# Altium footprint library CustomParts.PcbLib: 113 footprints (part 4 of 8)
Each footprint in its own frame and in the unit in brackets; x right, y up, seen from the top. Pads: shape width x height; smd on the part's side, far side on the other; paste and mask are expansions set on the pad; w line width, h text height; cw(c..) or ccw(c..) is an arc to the next point about the centre after c.
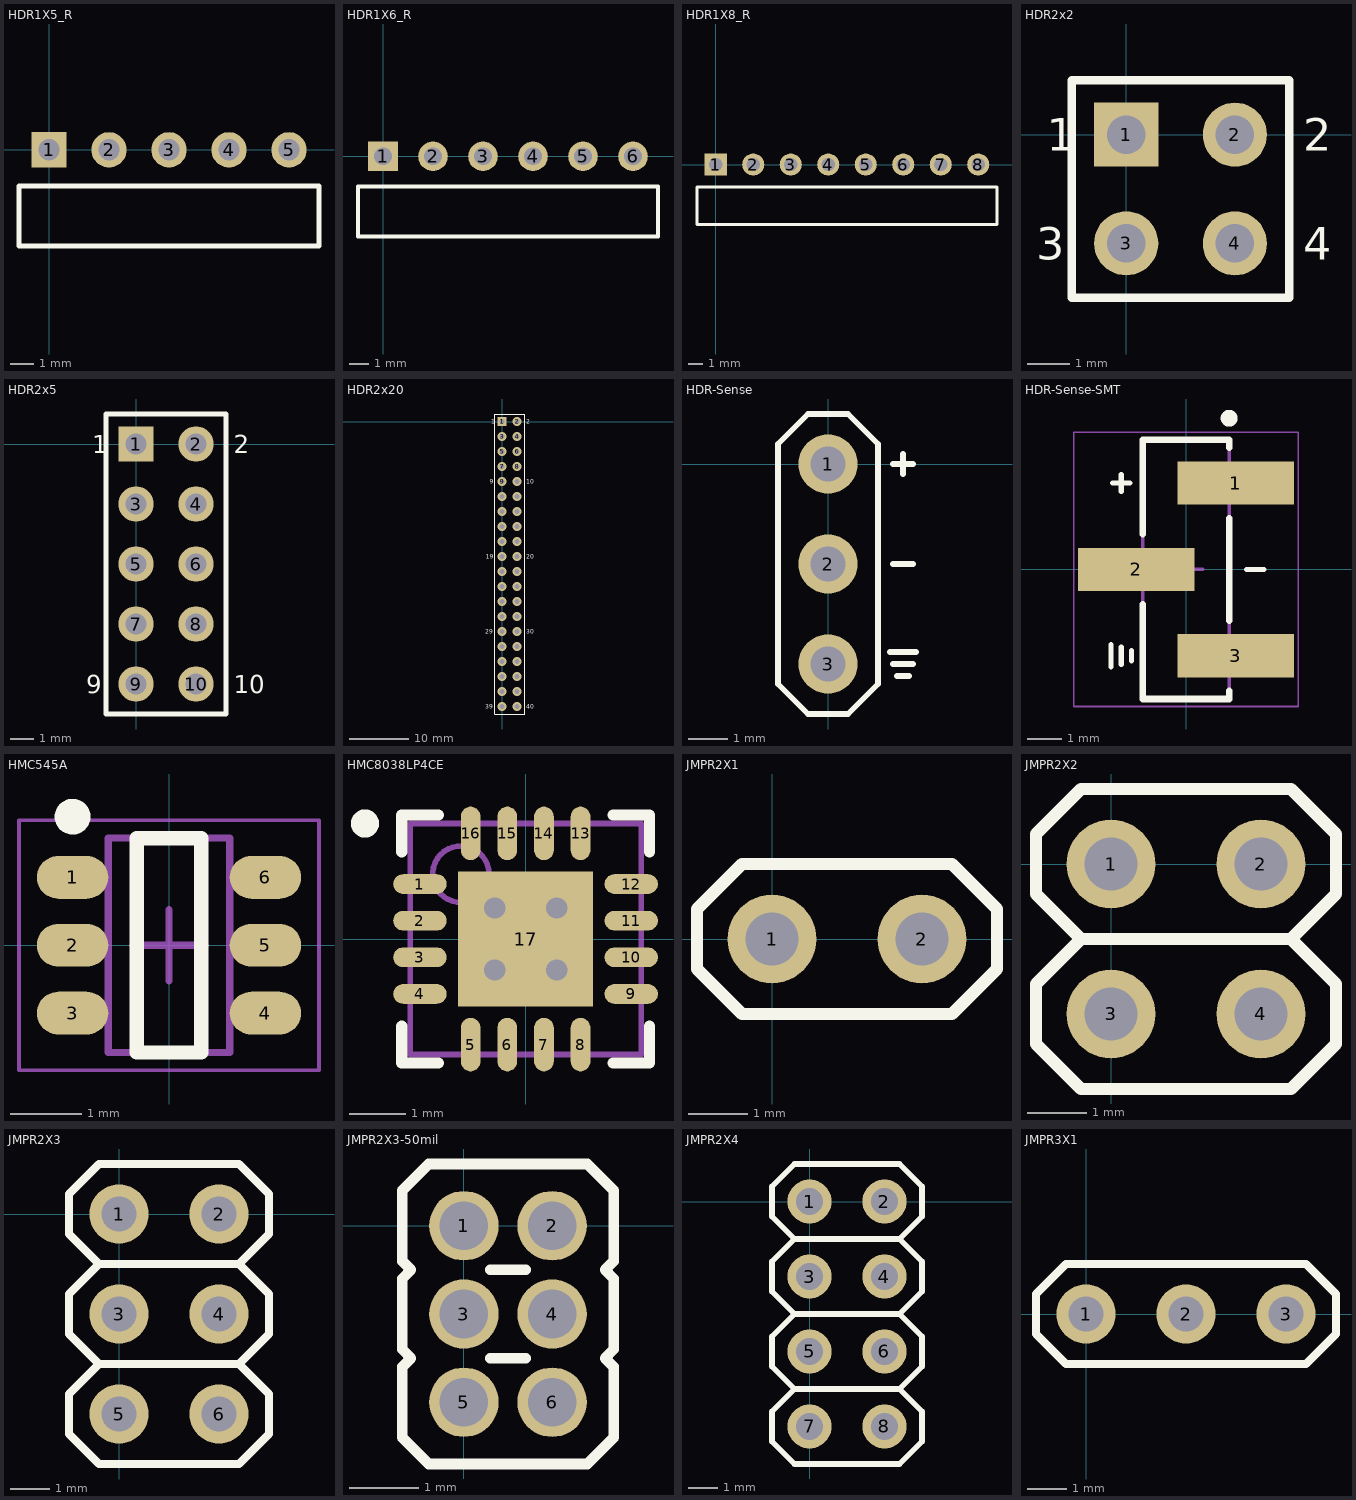
[diagram p3: the footprints below, top view; thin cyan lines are the x and y axes]

## HDR1X5_R [mm] "Power Header; 5 Position; Right Angle"
pads (5):
  rect 1.5x1.5 hole 0.9: 1(0,0)
  round 1.5 hole 0.9: 2(2.54,0) 3(5.08,0) 4(7.62,0) 5(10.16,0)
Top Overlay:
  lines w0.203: -1.27,-4.064 -1.27,-1.524 11.43,-1.524 11.43,-4.064 -1.27,-4.064

## HDR1X6_R [mm] "Power Header; 6 Position; Right Angle"
pads (6):
  rect 1.5x1.5 hole 0.9: 1(0,0)
  round 1.5 hole 0.9: 2(2.54,0) 3(5.08,0) 4(7.62,0) 5(10.16,0) 6(12.7,0)
Top Overlay:
  lines w0.203: -1.27,-4.064 -1.27,-1.524 13.97,-1.524 13.97,-4.064 -1.27,-4.064

## HDR1X8_R [mm] "Power Header; 8 Position; Right Angle"
pads (8):
  rect 1.5x1.5 hole 0.9: 1(0,0)
  round 1.5 hole 0.9: 2(2.54,0) 3(5.08,0) 4(7.62,0) 5(10.16,0) 6(12.7,0) 7(15.24,0) 8(17.78,0)
Top Overlay:
  lines w0.203: -1.27,-1.524 -1.27,-4.064 19.05,-4.064 19.05,-1.524 -1.245,-1.524

## HDR2x2 [mm] "Header, 2x2-Pin, 100 mil Pitch"
pads (4):
  rect 1.5x1.5 hole 0.9: 1(0,0)
  round 1.5 hole 0.9: 2(2.54,0) 3(0,-2.54) 4(2.54,-2.54)
Top Overlay:
  lines w0.203: -1.27,-3.81 -1.27,1.27 3.81,1.27 3.81,-3.81 -1.27,-3.81
  text "1" at -1.854,-0.381 h0.76
  text "2" at 4.14,-0.381 h0.76
  text "3" at -2.108,-2.921 h0.76
  text "4" at 4.14,-2.921 h0.76

## HDR2x5 [mm] "Header, 2x5-Pin, 100 mil Pitch"
pads (10):
  rect 1.5x1.5 hole 0.9: 1(0,0)
  round 1.5 hole 0.9: 2(2.54,0) 3(0,-2.54) 4(2.54,-2.54) 5(0,-5.08) 6(2.54,-5.08) 7(0,-7.62) 8(2.54,-7.62) 9(0,-10.16) 10(2.54,-10.16)
Top Overlay:
  lines w0.203: -1.27,-11.43 -1.27,1.27 3.81,1.27 3.81,-11.43 -1.27,-11.43
  text "1" at -1.854,-0.381 h0.76
  text "2" at 4.14,-0.381 h0.76
  text "9" at -2.108,-10.541 h0.76
  text "10" at 4.14,-10.541 h0.76

## HDR2x20 [mm] "Header, 2x20-Pin, 100 mil Pitch"
pads (40):
  rect 1.5x1.5 hole 0.9: 1(0,0)
  round 1.5 hole 0.9: 2(2.54,0) 3(0,-2.54) 4(2.54,-2.54) 5(0,-5.08) 6(2.54,-5.08) 7(0,-7.62) 8(2.54,-7.62) 9(0,-10.16) 10(2.54,-10.16) 11(0,-12.7) 12(2.54,-12.7) 13(0,-15.24) 14(2.54,-15.24) 15(0,-17.78) 16(2.54,-17.78) 17(0,-20.32) 18(2.54,-20.32) 19(0,-22.86) 20(2.54,-22.86) 21(0,-25.4) 22(2.54,-25.4) 23(0,-27.94) 24(2.54,-27.94) 25(0,-30.48) 26(2.54,-30.48) 27(0,-33.02) 28(2.54,-33.02) 29(0,-35.56) 30(2.54,-35.56) 31(0,-38.1) 32(2.54,-38.1) 33(0,-40.64) 34(2.54,-40.64) 35(0,-43.18) 36(2.54,-43.18) 37(0,-45.72) 38(2.54,-45.72) 39(0,-48.26) 40(2.54,-48.26)
Top Overlay:
  lines w0.203: -1.27,-49.53 -1.27,1.27 3.81,1.27 3.81,-49.53 -1.27,-49.53
  text "1" at -1.854,-0.381 h0.76
  text "2" at 4.14,-0.381 h0.76
  text "40" at 4.14,-48.641 h0.76
  text "39" at -2.87,-48.641 h0.76
  text "9" at -2.108,-10.541 h0.76
  text "10" at 4.14,-10.541 h0.76
  text "19" at -2.743,-23.241 h0.76
  text "20" at 4.14,-23.241 h0.76
  text "29" at -2.87,-35.941 h0.76
  text "30" at 4.14,-35.941 h0.76

## HDR-Sense [mm] "Current Sense Connection Header, Through-Hole"
pads (3):
  round 1.5 hole 0.9: 1(0,0) 2(0,-2.54) 3(0,-5.08)
Top Overlay:
  lines w0.152: -0.381,-6.35 0.381,-6.35 ; 1.575,-4.775 2.235,-4.775 ; 1.651,-5.08 2.159,-5.08 ; 1.651,-2.54 2.159,-2.54 ; 1.651,0 2.159,0 ; 1.753,-5.385 2.057,-5.385 ; 1.905,-0.254 1.905,0.254 ; -1.27,-5.588 -0.508,-6.35 0.508,-6.35 1.27,-5.588 1.27,0.508 0.508,1.27 -0.508,1.27 -1.27,0.508 -1.27,-5.588

## HDR-Sense-SMT [mm] "SMTC-TSM-103-01-XXX-SV with modified silk screen"
pads (3):
  rect 3.43x1.27 smd: 1(1.46,2.54) 2(-1.46,0) 3(1.46,-2.54)
Top Overlay:
  circle w0.25: c1.271,4.445 r0.125
  lines w0.152: -2.21,-2.87 -2.21,-2.21 ; -2.159,2.54 -1.651,2.54 ; -1.905,-2.794 -1.905,-2.286 ; -1.905,2.286 -1.905,2.794 ; -1.6,-2.692 -1.6,-2.388 ; 1.778,0 2.286,0
  lines w0.2: -1.27,-1.035 -1.27,-3.81 1.27,-3.81 1.27,-3.575 ; -1.27,1.035 -1.27,3.81 1.27,3.81 1.27,3.575 ; 1.27,-1.505 1.27,1.505
Mechanical 13:
  lines w0.1: -1.27,-3.81 -1.27,3.81 1.27,3.81 1.27,-3.81 -1.27,-3.81
Mechanical 15:
  lines w0.05: -3.3,-4.035 3.3,-4.035 3.3,4.035 -3.3,4.035 -3.3,-4.035
  lines w0.1: -0.5,0 0.5,0 ; 0,-0.5 0,0.5
3D body "TSM-103-01-L-SV.stp": height 9.65, standoff 0, extent -2.642,-3.81 2.642,3.81

## HMC545A [mm] "SOT23, 6-Leads, Body 2.90x2.80mm, Pitch 0.95mm, IPC Medium Density"
height 1.45
pads (6):
  oval 1x0.6 smd: 1(-1.35,0.95) 2(-1.35,0) 3(-1.35,-0.95) 4(1.35,-0.95) 5(1.35,0) 6(1.35,0.95)
Top Overlay:
  circle w0.25: c-1.35,1.8 r0.125
  lines w0.2: -0.45,-1.5 0.45,-1.5 0.45,1.5 -0.45,1.5 -0.45,-1.5
Mechanical 13:
  lines w0.1: -0.85,-1.5 -0.85,1.5 0.85,1.5 0.85,-1.5 -0.85,-1.5
Mechanical 15:
  lines w0.05: -2.1,-1.75 -2.1,1.75 2.1,1.75 2.1,-1.75 -2.1,-1.75
  lines w0.1: -0.5,0 0.5,0 ; 0,-0.5 0,0.5
3D body "SOT95P280X145-6N.step": height 1.45, standoff 0, extent -1.5,-1.5 1.5,1.5

## HMC8038LP4CE [mm] "QFN, 16-Leads, Body 4.00x4.00mm, Pitch 0.65mm, Thermal Pad 2.40x2.40mm, IPC Medium Density"
height 1
pads (17):
  oval 0.95x0.35 smd mask+0.102: 1(-1.875,0.975) 2(-1.875,0.325) 3(-1.875,-0.325) 4(-1.875,-0.975) 9(1.875,-0.975) 10(1.875,-0.325) 11(1.875,0.325) 12(1.875,0.975)
  oval 0.35x0.95 smd mask+0.102: 5(-0.975,-1.875) 6(-0.325,-1.875) 7(0.325,-1.875) 8(0.975,-1.875) 13(0.975,1.875) 14(0.325,1.875) 15(-0.325,1.875) 16(-0.975,1.875)
  rect 2.4x2.4 smd mask+0.102: 17(0,0)
via 0.55,-0.55 diameter 0.762 hole 0.381
via -0.55,-0.55 diameter 0.762 hole 0.381
via 0.55,0.55 diameter 0.762 hole 0.381
via -0.55,0.55 diameter 0.762 hole 0.381
Top Overlay:
  circle w0.25: c-2.85,2.05 r0.125
  lines w0.2: -2.2,-1.55 -2.2,-2.2 -1.55,-2.2 ; -2.2,1.55 -2.2,2.2 -1.55,2.2 ; 1.55,-2.2 2.2,-2.2 2.2,-1.55 ; 1.55,2.2 2.2,2.2 2.2,1.55
Mechanical 13:
  circle w0.1: c-1.15,1.15 r0.5
  lines w0.1: -2.05,-2.05 2.05,-2.05 2.05,2.05 -2.05,2.05 -2.05,-2.05
3D body: height 1, standoff 0.02, extent -2.05,-2.05 2.05,2.05

## JMPR2X1 [mm] "Jumper, 2-Position"
pads (2):
  round 1.5 hole 0.9: 1(0,0) 2(2.54,0)
Top Overlay:
  lines w0.203: -0.508,1.27 -1.27,0.508 -1.27,0 -1.27,-0.508 -0.508,-1.27 3.048,-1.27 3.81,-0.508 3.81,0.508 3.048,1.27 ; -0.508,1.27 3.048,1.27 ; -0.508,1.27 3.048,1.27

## JMPR2X2 [mm] "Jumper, Two of 2-Position"
pads (4):
  round 1.5 hole 0.9: 1(0,0) 2(2.54,0) 3(0,-2.54) 4(2.54,-2.54)
Top Overlay:
  lines w0.203: -0.508,-1.27 -1.27,-2.032 -1.27,-2.54 -1.27,-3.048 -0.508,-3.81 3.048,-3.81 3.81,-3.048 3.81,-2.032 3.048,-1.27 ; -0.508,-1.27 3.048,-1.27 ; -0.508,-1.27 3.048,-1.27 ; -0.508,-1.27 -1.27,-0.508 -1.27,0 -1.27,0.508 -0.508,1.27 3.048,1.27 3.81,0.508 3.81,-0.508 3.048,-1.27

## JMPR2X3 [mm] "Jumper, Three of 2-Position"
pads (6):
  round 1.5 hole 0.9: 1(0,0) 2(2.54,0) 3(0,-2.54) 4(2.54,-2.54) 5(0,-5.08) 6(2.54,-5.08)
Top Overlay:
  lines w0.203: -0.508,-3.81 -1.27,-4.572 -1.27,-5.08 -1.27,-5.588 -0.508,-6.35 3.048,-6.35 3.81,-5.588 3.81,-4.572 3.048,-3.81 ; -0.508,-3.81 3.048,-3.81 ; -0.508,-3.81 3.048,-3.81 ; -0.508,-3.81 -1.27,-3.048 -1.27,-2.54 -1.27,-2.032 -0.508,-1.27 ; -0.508,-1.27 3.048,-1.27 ; -0.508,-1.27 -1.27,-0.508 -1.27,0 -1.27,0.508 -0.508,1.27 3.048,1.27 3.81,0.508 3.81,-0.508 3.048,-1.27 ; -0.508,-1.27 3.048,-1.27 ; 3.048,-3.81 3.81,-3.048 3.81,-2.032 3.048,-1.27

## JMPR2X3-50mil [mm] "Jumper, Three of 2-Position, 50 mil pitch"
pads (6):
  round 1 hole 0.7: 1(0,0) 2(1.27,0) 3(0,-1.27) 4(1.27,-1.27) 5(0,-2.54) 6(1.27,-2.54)
Top Overlay:
  lines w0.152: 0.381,-1.905 0.889,-1.905 ; 0.381,-0.635 0.889,-0.635 ; -0.889,-3.048 -0.508,-3.429 1.778,-3.429 2.159,-3.048 2.159,-2.032 2.032,-1.905 2.159,-1.778 2.159,-0.762 2.032,-0.635 2.159,-0.508 2.159,0.508 1.778,0.889 -0.508,0.889 -0.889,0.508 -0.889,-0.508 -0.762,-0.635 -0.889,-0.762 -0.889,-1.778 -0.762,-1.905 -0.889,-2.032 -0.889,-3.048

## JMPR2X4 [mm] "Jumper, Four of 2-Position"
pads (8):
  round 1.5 hole 0.9: 1(0,0) 2(2.54,0) 3(0,-2.54) 4(2.54,-2.54) 5(0,-5.08) 6(2.54,-5.08) 7(0,-7.62) 8(2.54,-7.62)
Top Overlay:
  lines w0.203: -0.508,-6.35 -1.27,-5.588 -1.27,-5.08 -1.27,-4.572 -0.508,-3.81 ; -0.508,-6.35 -1.27,-7.112 -1.27,-7.62 -1.27,-8.128 -0.508,-8.89 3.048,-8.89 3.81,-8.128 3.81,-7.112 3.048,-6.35 ; -0.508,-6.35 3.048,-6.35 ; -0.508,-6.35 3.048,-6.35 ; -0.508,-3.81 3.048,-3.81 ; -0.508,-3.81 -1.27,-3.048 -1.27,-2.54 -1.27,-2.032 -0.508,-1.27 ; -0.508,-3.81 3.048,-3.81 ; -0.508,-1.27 3.048,-1.27 ; -0.508,-1.27 -1.27,-0.508 -1.27,0 -1.27,0.508 -0.508,1.27 3.048,1.27 3.81,0.508 3.81,-0.508 3.048,-1.27 ; -0.508,-1.27 3.048,-1.27 ; 3.048,-6.35 3.81,-5.588 3.81,-4.572 3.048,-3.81 ; 3.048,-3.81 3.81,-3.048 3.81,-2.032 3.048,-1.27

## JMPR3X1 [mm] "Jumper, 3-Position"
pads (3):
  round 1.5 hole 0.9: 1(0,0) 2(2.54,0) 3(5.08,0)
Top Overlay:
  lines w0.203: -1.27,-0.508 -1.27,0.508 -0.508,1.27 5.588,1.27 6.35,0.508 6.35,-0.508 5.588,-1.27 -0.508,-1.27 -1.27,-0.508